# EAGLE library part IC_H_BRIDGE_LV8549MC (library homemade-hardware)
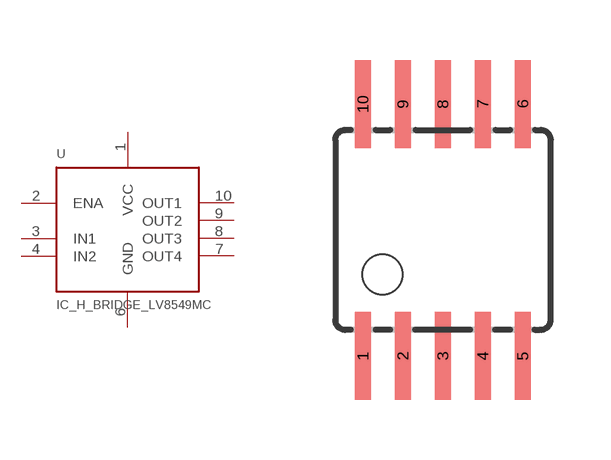
[diagram p18: symbol with the pads of SOIC10; footprint SOIC10]

Designator prefix -

## IC_H_BRIDGE_LV8549MC  [SOIC10]
1  VCC
2  ENA
3  IN1
4  IN2
6  GND
7  OUT4
8  OUT3
9  OUT2
10  OUT1

## Footprint SOIC10 (pad centres in mm)
smd 0.4 x 2.2: 1 -2,-3.154; 2 -1,-3.154; 3 0,-3.154; 4 1,-3.154; 5 2,-3.154; 6 2,3.154; 7 1,3.154; 8 0,3.154; 9 -1,3.154; 10 -2,3.154